# Altium integrated library AUVic_Integrated_Library_LCDs.IntLib: 2 symbols
Pins are listed as number, name and electrical type; pins without a type are passive.

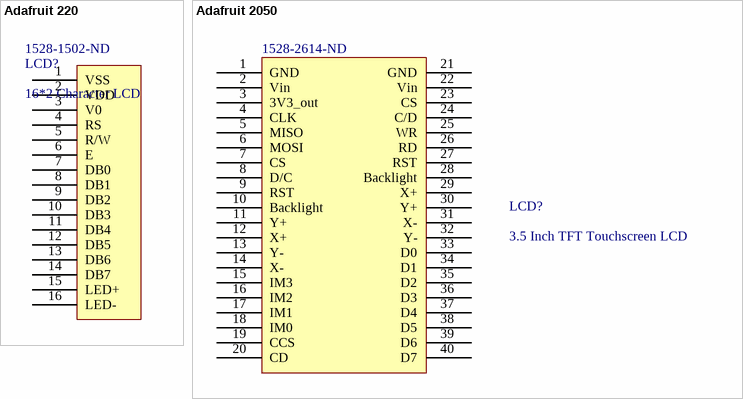
[diagram p0: symbols Adafruit 220 to Adafruit 2050]

## Adafruit 220
designator LCD?, comment 16*2 Character LCD  Supplier Part Number 1: 1528-1502-ND
Character LCD Display Module Transmissive STN - Super-Twisted Nematic LED - White Parallel, 8-Bit; Supplier 1: Digi-Key; ComponentLink1Description: Digikey; ComponentLink1URL: https://www.digikey.ca/product-detail/en/adafruit-industries-llc/181/1528-1502-ND/5774228
pins: 1 VSS, 2 VDD, 3 V0, 4 RS, 5 R/W, 6 E, 7 DB0, 8 DB1, 9 DB2, 10 DB3, 11 DB4, 12 DB5, 13 DB6, 14 DB7, 15 LED+, 16 LED-

## Adafruit 2050
designator LCD?, comment 3.5 Inch TFT Touchscreen LCD  Supplier Part Number 1: 1528-2614-ND
3.5" TFT 320X480 TOUCHSCREEN; ComponentLink1Description: Adafruit; ComponentLink1URL: https://www.adafruit.com/product/1743; ComponentLink2Description: Datasheet; ComponentLink2URL: https://cdn-shop.adafruit.com/datasheets/ILI9341.pdf; ComponentLink3Description: Raw LCD Datasheet; ComponentLink3URL: https://cdn-shop.adafruit.com/datasheets/MI0283QT-11+V1.1.PDF; ComponentLink4Description: DigiKey; ComponentLink4URL: https://www.digikey.ca/products/en/optoelectronics/display-modules-lcd-oled-graphic/107?k=&pkeyword=&pv652=165&FV=ffe0006b%2Cfffc05f8&quantity=0&ColumnSort=0&page=1&pageSize=25; ComponentLink5Description: Adafruit Guide; ComponentLink5URL: https://cdn-learn.adafruit.com/downloads/pdf/adafruit-2-dot-8-color-tft-touchscreen-breakout-v2.pdf; Supplier 1: Digi-Key; Supplier 2: Digi-Key; Supplier Part Number 2: S7053-ND
footprint LCD_touchscreen_tft
pins: 1 GND, 2 Vin, 3 3V3_out, 4 CLK, 5 MISO, 6 MOSI, 7 CS, 8 D/C, 9 RST, 10 Backlight "Aka Lite", 11 Y+, 12 X+, 13 Y-, 14 X-, 15 IM3, 16 IM2, 17 IM1, 18 IM0, 19 CCS, 20 CD, 21 GND, 22 Vin, 23 CS, 24 C/D, 25 WR, 26 RD, 27 RST, 28 Backlight, 29 X+, 30 Y+, 31 X-, 32 Y-, 33 D0, 34 D1, 35 D2, 36 D3, 37 D4, 38 D5, 39 D6, 40 D7